# Altium footprint library Capacitors.PcbLib: 2 footprints
Each footprint in its own frame and in the unit in brackets; x right, y up, seen from the top. Pads: shape width x height; smd on the part's side, far side on the other; paste and mask are expansions set on the pad; w line width, h text height; cw(c..) or ccw(c..) is an arc to the next point about the centre after c.
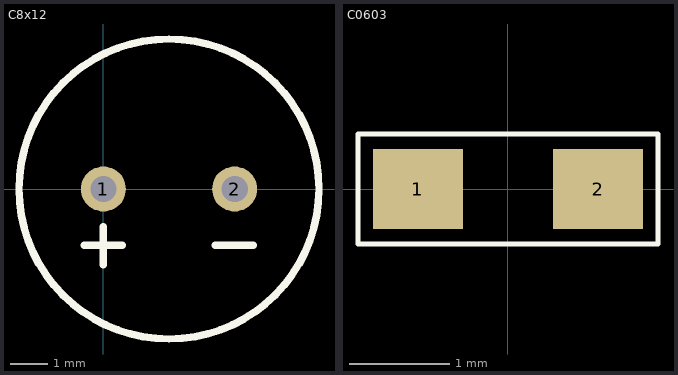
[diagram p0: the footprints below, top view; thin cyan lines are the x and y axes]

## C8x12 [mm]
pads (2):
  round 1.2 hole 0.7: 1(0,0) 2(3.5,0)
Top Overlay:
  circle w0.2: c1.75,0 r4
  lines w0.2: -0.516,-1.5 0.5,-1.5 ; 0,-2.016 0,-1 ; 2.984,-1.5 4,-1.5

## C0603 [mm]
pads (2):
  rect 0.9x0.8 smd: 1(-0.9,0) 2(0.9,0)
Top Overlay:
  lines w0.05: -1.5,-0.55 -1.5,0 -1.5,0.55 1.5,0.55 1.5,-0.55 -1.5,-0.55